# Altium footprint library TSSOP.PcbLib: 1 footprints
Each footprint in its own frame and in the unit in brackets; x right, y up, seen from the top. Pads: shape width x height; smd on the part's side, far side on the other; paste and mask are expansions set on the pad; w line width, h text height; cw(c..) or ccw(c..) is an arc to the next point about the centre after c.
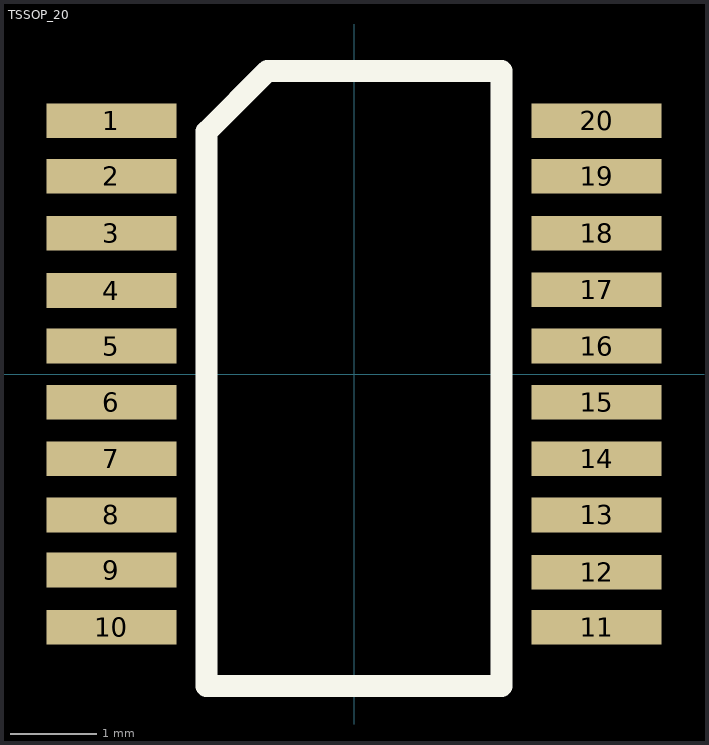
[diagram p0: the footprint, top view; thin cyan lines are the x and y axes]

## TSSOP_20 [mm]
pads (20):
  rect 1.5x0.4 smd: 1(-2.8,2.925) 2(-2.8,2.286) 3(-2.8,1.626) 4(-2.8,0.965) 5(-2.8,0.325) 6(-2.8,-0.325) 7(-2.8,-0.975) 8(-2.8,-1.626) 9(-2.8,-2.261) 10(-2.8,-2.921) 11(2.8,-2.921) 12(2.8,-2.286) 13(2.8,-1.626) 14(2.8,-0.975) 15(2.8,-0.325) 16(2.8,0.325) 17(2.8,0.975) 18(2.8,1.626) 19(2.8,2.286) 20(2.8,2.925)
Top Overlay:
  lines w0.254: -1.7,-3.6 1.7,-3.6 1.7,3.5 -1,3.5 -1.7,2.8 -1.7,-3.6
3D body "TSSOP_20.step": height 1.2, standoff 0, extent -3.3,-3.3 3.3,3.3